# Altium footprint library STM32F407Disc.PcbLib: 1 footprints
Each footprint in its own frame and in the unit in brackets; x right, y up, seen from the top. Pads: shape width x height; smd on the part's side, far side on the other; paste and mask are expansions set on the pad; w line width, h text height; cw(c..) or ccw(c..) is an arc to the next point about the centre after c.
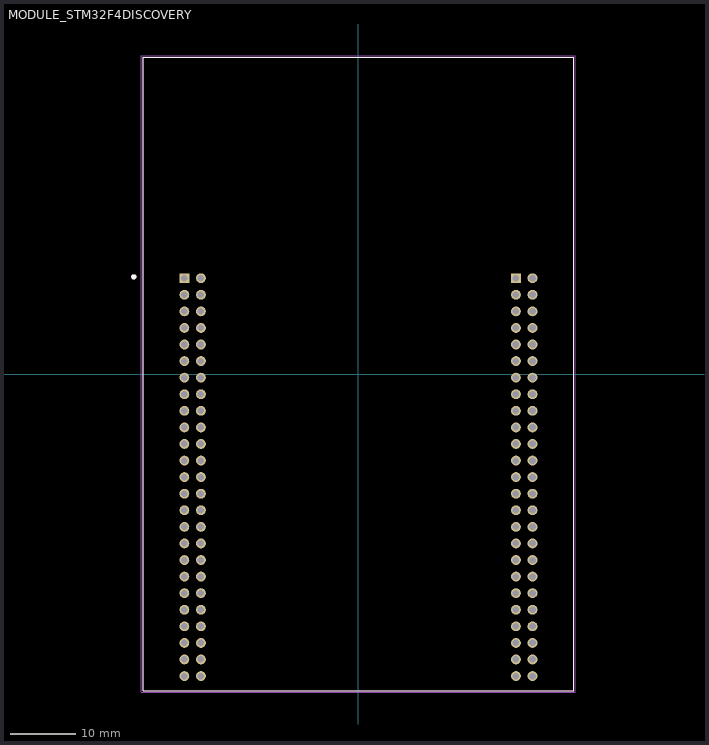
[diagram p0: the footprint, top view; thin cyan lines are the x and y axes]

## MODULE_STM32F4DISCOVERY [mm]
pads (100):
  rect 1.508x1.508 hole 1: P1_1(-26.67,14.68) P2_1(24.13,14.68)
  round 1.508 hole 1: P1_2(-24.13,14.68) P1_3(-26.67,12.14) P1_4(-24.13,12.14) P1_5(-26.67,9.6) P1_6(-24.13,9.6) P1_7(-26.67,7.06) P1_8(-24.13,7.06) P1_9(-26.67,4.52) P1_10(-24.13,4.52) P1_11(-26.67,1.98) P1_12(-24.13,1.98) P1_13(-26.67,-0.56) P1_14(-24.13,-0.56) P1_15(-26.67,-3.1) P1_16(-24.13,-3.1) P1_17(-26.67,-5.64) P1_18(-24.13,-5.64) P1_19(-26.67,-8.18) P1_20(-24.13,-8.18) P1_21(-26.67,-10.72) P1_22(-24.13,-10.72) P1_23(-26.67,-13.26) P1_24(-24.13,-13.26) P1_25(-26.67,-15.8) P1_26(-24.13,-15.8) P1_27(-26.67,-18.34) P1_28(-24.13,-18.34) P1_29(-26.67,-20.88) P1_30(-24.13,-20.88) P1_31(-26.67,-23.42) P1_32(-24.13,-23.42) P1_33(-26.67,-25.96) P1_34(-24.13,-25.96) P1_35(-26.67,-28.5) P1_36(-24.13,-28.5) P1_37(-26.67,-31.04) P1_38(-24.13,-31.04) P1_39(-26.67,-33.58) P1_40(-24.13,-33.58) P1_41(-26.67,-36.12) P1_42(-24.13,-36.12) P1_43(-26.67,-38.66) P1_44(-24.13,-38.66) P1_45(-26.67,-41.2) P1_46(-24.13,-41.2) P1_47(-26.67,-43.74) P1_48(-24.13,-43.74) P1_49(-26.67,-46.28) P1_50(-24.13,-46.28) P2_2(26.67,14.68) P2_3(24.13,12.14) P2_4(26.67,12.14) P2_5(24.13,9.6) P2_6(26.67,9.6) P2_7(24.13,7.06) P2_8(26.67,7.06) P2_9(24.13,4.52) P2_10(26.67,4.52) P2_11(24.13,1.98) P2_12(26.67,1.98) P2_13(24.13,-0.56) P2_14(26.67,-0.56) P2_15(24.13,-3.1) P2_16(26.67,-3.1) P2_17(24.13,-5.64) P2_18(26.67,-5.64) P2_19(24.13,-8.18) P2_20(26.67,-8.18) P2_21(24.13,-10.72) P2_22(26.67,-10.72) P2_23(24.13,-13.26) P2_24(26.67,-13.26) P2_25(24.13,-15.8) P2_26(26.67,-15.8) P2_27(24.13,-18.34) P2_28(26.67,-18.34) P2_29(24.13,-20.88) P2_30(26.67,-20.88) P2_31(24.13,-23.42) P2_32(26.67,-23.42) P2_33(24.13,-25.96) P2_34(26.67,-25.96) P2_35(24.13,-28.5) P2_36(26.67,-28.5) P2_37(24.13,-31.04) P2_38(26.67,-31.04) P2_39(24.13,-33.58) P2_40(26.67,-33.58) P2_41(24.13,-36.12) P2_42(26.67,-36.12) P2_43(24.13,-38.66) P2_44(26.67,-38.66) P2_45(24.13,-41.2) P2_46(26.67,-41.2) P2_47(24.13,-43.74) P2_48(26.67,-43.74) P2_49(24.13,-46.28) P2_50(26.67,-46.28)
Top Overlay:
  circle w0.4: c-34.41,14.88 r0.2
  lines w0.127: -33,-48.5 -33,48.5 33,48.5 33,-48.5 -33,-48.5
Mechanical 13:
  circle w0.4: c-34.41,14.88 r0.2
  lines w0.127: -33,-48.5 -33,48.5 33,48.5 33,-48.5 -33,-48.5
Mechanical 15:
  lines w0.05: -33.25,-48.75 -33.25,48.75 33.25,48.75 33.25,-48.75 -33.25,-48.75
3D body "stm30f4.step": height 24.5, standoff 1.5, extent -32.639,-52.045 32.861,50.521
3D body "User Library-PBD2_54-10.step": height 8.4, standoff -2.7, extent 22.733,-47.498 27.813,-34.798
3D body "User Library-PBD2_54-10.step": height 8.4, standoff -2.7, extent 22.733,-34.798 27.813,-22.098
3D body "User Library-PBD2_54-10.step": height 8.4, standoff -2.7, extent 22.733,-22.098 27.813,-9.398
3D body "User Library-PBD2_54-10.step": height 8.4, standoff -2.7, extent 22.733,-9.398 27.813,3.302
3D body "User Library-PBD2_54-10.step": height 8.4, standoff -2.7, extent 22.733,3.302 27.813,16.002
3D body "User Library-PBD2_54-10.step": height 8.4, standoff -2.7, extent -28.067,-47.55 -22.987,-34.85
3D body "User Library-PBD2_54-10.step": height 8.4, standoff -2.7, extent -28.067,-34.85 -22.987,-22.15
3D body "User Library-PBD2_54-10.step": height 8.4, standoff -2.7, extent -28.067,-22.15 -22.987,-9.45
3D body "User Library-PBD2_54-10.step": height 8.4, standoff -2.7, extent -28.067,-9.45 -22.987,3.25
3D body "User Library-PBD2_54-10.step": height 8.4, standoff -2.7, extent -28.067,3.25 -22.987,15.95